# EAGLE library part BS2 (library BASIC_Stamps)
BASIC Stamp family of microcontrollers including BS2, BS2e, BS2sx, BS2p24. Please refer to the owners manual or visit www.parallax.com for more information.
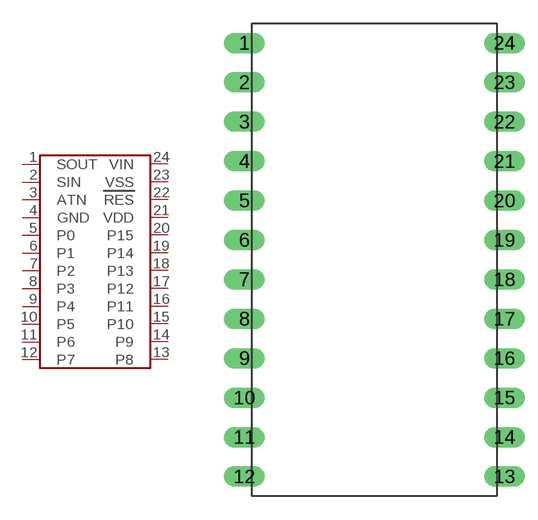
[diagram p1: symbol with the pads of DIL; footprint DIL]

Designator prefix -

## BS2_FAMILY  [DIL]
1  SOUT  out
2  SIN  in
3  ATN  in
4  GND  sup
5  P0
6  P1
7  P2
8  P3
9  P4
10  P5
11  P6
12  P7
13  P8
14  P9
15  P10
16  P11
17  P12
18  P13
19  P14
20  P15
21  VDD  pwr
22  RES  out
23  VSS  sup
24  VIN  pwr

## Footprint DIL (pad centres in mm)
24 pin DIL .62 in x 1.2 in w/ .1 in pin spacing
drill 0.813 long: 1 -8.382,13.97; 2 -8.382,11.43; 3 -8.382,8.89; 4 -8.382,6.35; 5 -8.382,3.81; 6 -8.382,1.27; 7 -8.382,-1.27; 8 -8.382,-3.81; 9 -8.382,-6.35; 10 -8.382,-8.89; 11 -8.382,-11.43; 12 -8.382,-13.97; 13 8.382,-13.97; 14 8.382,-11.43; 15 8.382,-8.89; 16 8.382,-6.35; 17 8.382,-3.81; 18 8.382,-1.27; 19 8.382,1.27; 20 8.382,3.81; 21 8.382,6.35; 22 8.382,8.89; 23 8.382,11.43; 24 8.382,13.97